# Altium footprint library MC-IMX6UL-DK v1.1.PcbLib: 48 footprints (part 1 of 3)
Each footprint in its own frame and in the unit in brackets; x right, y up, seen from the top. Pads: shape width x height; smd on the part's side, far side on the other; paste and mask are expansions set on the pad; w line width, h text height; cw(c..) or ccw(c..) is an arc to the next point about the centre after c.
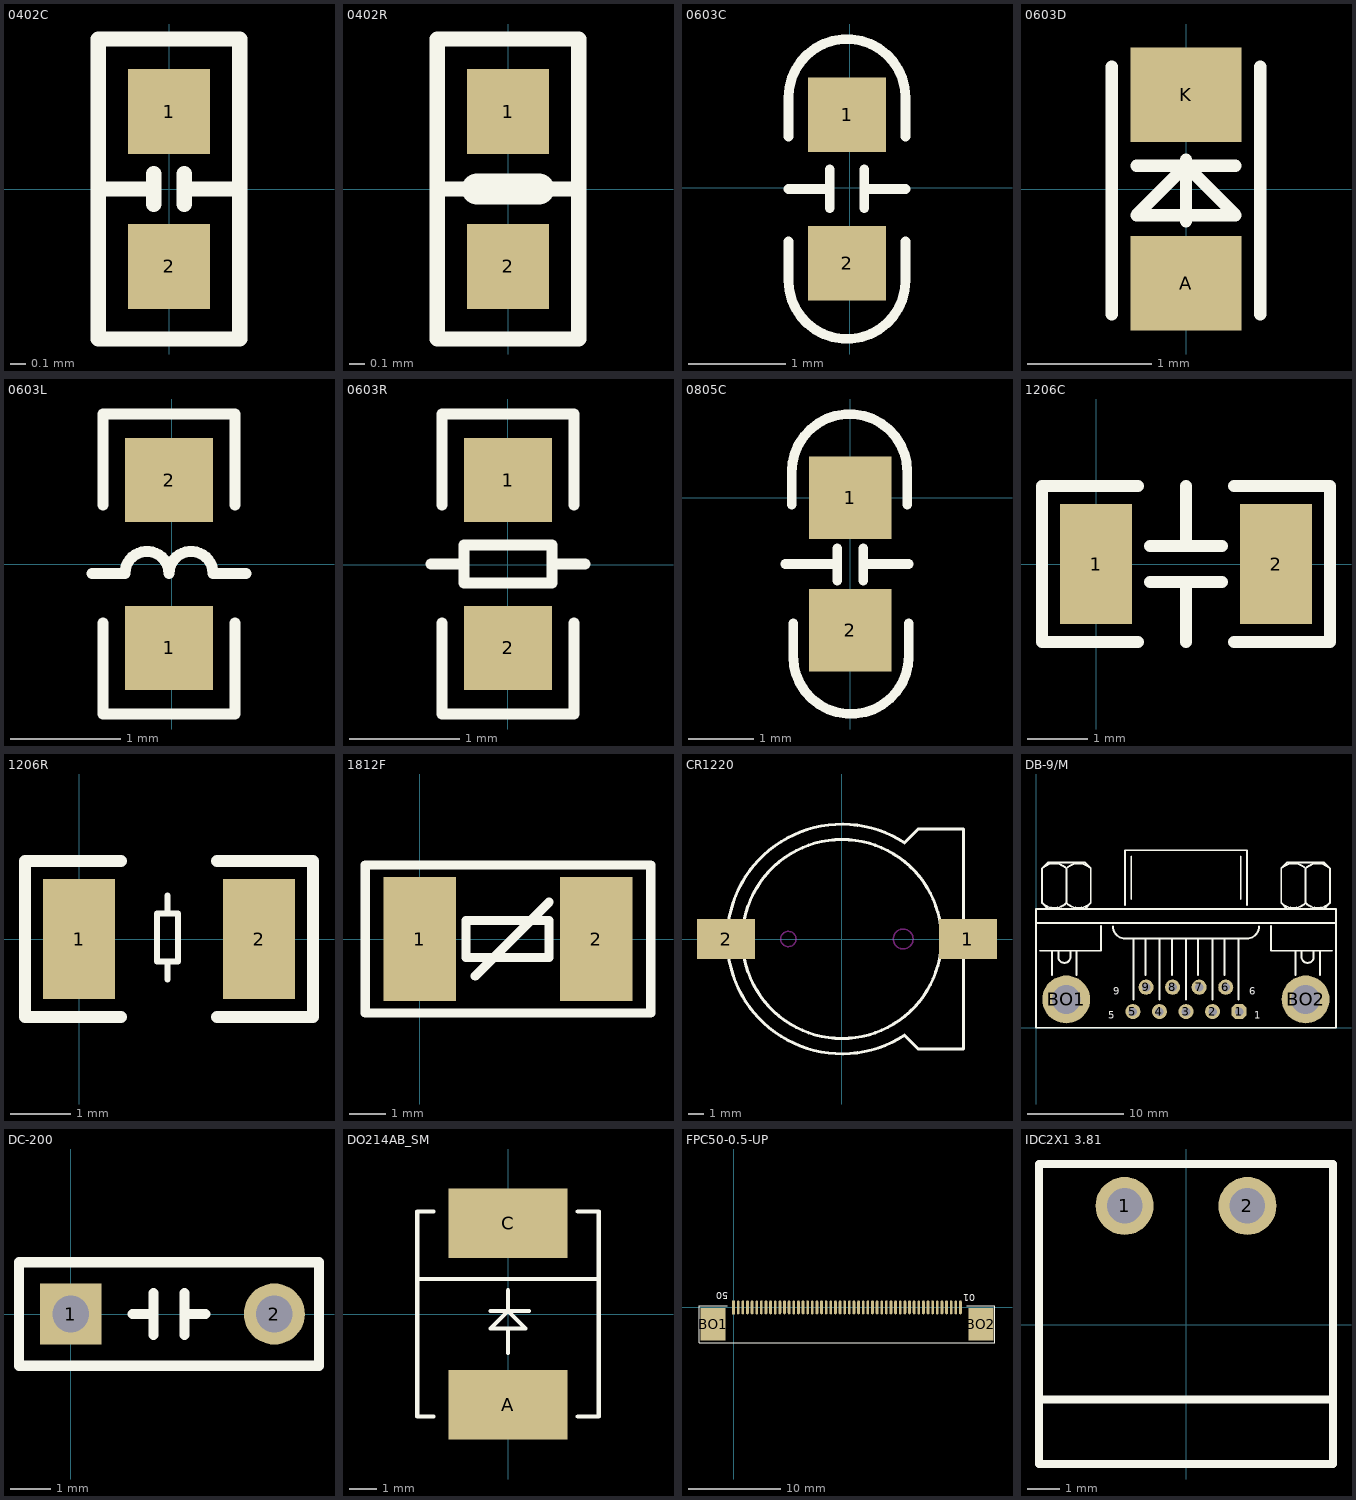
[diagram p0: the footprints below, top view; thin cyan lines are the x and y axes]

## 0402C [mm]
height 4.064
pads (2):
  rect 0.53x0.55 smd: 1(0,0.5) 2(0,-0.5)
Top Overlay:
  lines w0.1: -0.457,0 -0.1,0 ; -0.1,-0.1 -0.1,0.1 ; 0.1,-0.1 0.1,0.1 ; 0.1,0 0.457,0 ; -0.457,-0.97 0.457,-0.97 0.457,0.97 -0.457,0.97 -0.457,-0.97

## 0402R [mm]
height 4.064
pads (2):
  rect 0.53x0.55 smd: 1(0,0.5) 2(0,-0.5)
Top Overlay:
  lines w0.1: -0.457,0 -0.2,0 ; 0.2,0 0.457,0 ; -0.457,-0.97 0.457,-0.97 0.457,0.97 -0.457,0.97 -0.457,-0.97
  lines w0.2: -0.2,0 0.2,0

## 0603C [mm]
pads (2):
  rect 0.8x0.762 smd: 1(-0.026,0.75) 2(-0.026,-0.774)
Top Overlay:
  lines w0.1: -0.626,-0.55 -0.626,-0.95 ccw(c-0.026,-0.95) 0.574,-0.95 0.574,-0.55 ; -0.626,-0.012 -0.226,-0.012 ; -0.626,0.526 -0.626,0.926 cw(c-0.026,0.926) 0.574,0.926 0.574,0.526 ; -0.204,-0.209 -0.204,0.191 ; 0.152,-0.209 0.152,0.191 ; 0.174,-0.012 0.574,-0.012

## 0603D [mil]
pads (2):
  rect 35.43x30 smd: A(0,-30) K(0,30)
Top Overlay:
  lines w3.94: -23.62,-39.81 -23.62,38.93 ; -15.75,7.43 15.75,7.43 ; 0,-10.28 0,9.4 ; 23.62,-39.81 23.62,38.93 ; -15.75,-8.31 15.75,-8.31 0,7.43 -15.75,-8.31

## 0603L [mm]
pads (2):
  rect 0.8x0.762 smd: 1(-0.023,-0.76) 2(-0.023,0.764)
Top Overlay:
  lines w0.1: -0.723,-0.084 -0.423,-0.084 cw(c-0.223,-0.084) -0.023,-0.084 cw(c0.177,-0.084) 0.377,-0.084 0.677,-0.084 ; -0.623,-0.536 -0.623,-1.36 0.577,-1.36 0.577,-0.536 ; -0.623,0.54 -0.623,1.364 0.577,1.364 0.577,0.54

## 0603R [mm]
pads (2):
  rect 0.8x0.762 smd: 1(0.001,0.77) 2(0.001,-0.754)
Top Overlay:
  lines w0.1: -0.699,0.008 -0.399,0.008 ; -0.599,-0.53 -0.599,-1.354 0.601,-1.354 0.601,-0.53 ; -0.599,0.546 -0.599,1.37 0.601,1.37 0.601,0.546 ; 0.401,0.008 0.701,0.008 ; -0.399,-0.166 0.401,-0.166 0.401,0.182 -0.399,0.182 -0.399,-0.166

## 0805C [mil]
pads (2):
  rect 50x50 smd: 1(0,0) 2(0,-80)
Top Overlay:
  lines w5.91: -39.37,-40 -7.87,-40 ; -35.43,-4.13 -35.43,15.87 cw(c-0.43,15.87) 34.57,15.87 34.57,-4.13 ; -34.57,-75.87 -34.57,-95.87 ccw(c0.43,-95.87) 35.43,-95.87 35.43,-75.87 ; -7.87,-50.12 -7.87,-30.43 ; 7.87,-50.12 7.87,-30.43 ; 7.87,-40 35.43,-40

## 1206C [mm]
pads (2):
  rect 1.2x2 smd: 1(0,0) 2(3,0)
Top Overlay:
  lines w0.2: 0.7,-1.3 -0.9,-1.3 -0.9,1.3 0.7,1.3 ; 0.9,-0.3 2.1,-0.3 ; 0.9,0.3 2.1,0.3 ; 1.5,-1.3 1.5,-0.3 ; 1.5,0.3 1.5,1.3 ; 2.3,-1.3 3.9,-1.3 3.9,1.3 2.3,1.3

## 1206R [mm]
pads (2):
  rect 1.2x2 smd: 1(0,0) 2(3,0)
Top Overlay:
  lines w0.1: 1.477,-0.676 1.477,-0.376 ; 1.477,0.424 1.477,0.724 ; 1.303,-0.376 1.303,0.424 1.651,0.424 1.651,-0.376 1.303,-0.376
  lines w0.2: 0.7,-1.3 -0.9,-1.3 -0.9,1.3 0.7,1.3 ; 2.3,-1.3 3.9,-1.3 3.9,1.3 2.3,1.3

## 1812F [mm]
pads (2):
  rect 2x3.4 smd: 1(0,0) 2(4.85,0)
Top Overlay:
  lines w0.254: 1.524,-1.016 3.556,1.016 ; -1.5,-2.032 6.35,-2.032 6.35,2.032 -1.5,2.032 -1.5,-2.032 ; 1.27,-0.508 3.556,-0.508 3.556,0.508 1.27,0.508 1.27,-0.508

## CR1220 [mm]
pads (2):
  rect 3.8x2.6 smd: 1(8.23,0) 2(-7.57,0)
Top Overlay:
  circle w0.2: c0,0 r6.5
  lines w0.152: 5,7.2 5,7.2
  lines w0.2: 4.085,-6.29 cw(c0,0) 4.085,6.29 ; 4.1,-6.3 5,-7.2 7.9,-7.2 ; 4.1,6.3 5,7.2 7.9,7.2 ; 7.94,-7.2 7.94,7.2
Keep-Out Layer:
  circle w0.1: c-3.5,0 r0.5
  circle w0.1: c4,0 r0.65

## DB-9/M [mil]
pads (11):
  oct 62x62 hole 35: 1(835,66.67)
  round 62 hole 35: 2(725.83,66.67) 3(616.67,66.67) 4(507.5,66.67) 5(398.33,66.67) 6(780,166.67) 7(670.83,166.67) 8(561.67,166.67) 9(452.5,166.67)
  round 196.67 hole 118.33: BO1(124.17,116.67) BO2(1108.33,116.67)
Top Overlay:
  lines w8: 0,429.86 1233.33,429.86 ; 16.67,316.67 266.67,316.67 266.67,418.05 ; 24.91,513.1 ccw(c75,563.19) 125.09,513.1 ; 24.91,654.94 cw(c75,604.86) 125.09,654.94 ; 50,488.19 25,513.19 25,654.86 50,679.86 200,679.86 225,654.86 225,513.19 200,488.19 ; 66.67,216.67 66.67,316.67 ; 91.67,316.67 91.67,291.67 ccw(c116.67,291.67) 141.67,291.67 141.67,316.67 ; 124.91,513.1 ccw(c175,563.19) 225.09,513.1 ; 124.91,654.94 cw(c175,604.86) 225.09,654.94 ; 125,513.19 125,654.86 ; 166.67,216.67 166.67,316.67 ; 316.67,416.67 ccw(c366.67,416.67) 366.67,366.67 866.67,366.67 ccw(c866.67,416.67) 916.67,416.67 ; 366.67,504.86 366.67,729.86 866.67,729.86 866.67,504.86 ; 391.67,529.86 391.67,704.86 ; 400,116.67 400,366.67 ; 450,216.67 450,366.67 ; 508.33,116.67 508.33,366.67 ; 558.33,216.67 558.33,366.67 ; 616.67,116.67 616.67,366.67 ; 666.67,216.67 666.67,366.67 ; 725,116.67 725,366.67 ; 775,216.67 775,225 775,366.67 ; 833.33,116.67 833.33,366.67 ; 841.67,529.86 841.67,704.86 ; 966.67,418.05 966.67,316.67 1216.67,316.67 ; 1008.25,513.1 ccw(c1058.33,563.19) 1108.42,513.1 ; 1008.25,654.94 cw(c1058.33,604.86) 1108.42,654.94 ; 1033.33,488.19 1008.33,513.19 1008.33,654.86 1033.33,679.86 1183.33,679.86 1208.33,654.86 1208.33,513.19 1183.33,488.19 ; 1066.67,216.67 1066.67,316.67 ; 1091.67,316.67 1091.67,291.67 ccw(c1116.67,291.67) 1141.67,291.67 1141.67,316.67 ; 1108.25,513.1 ccw(c1158.33,563.19) 1208.42,513.1 ; 1108.25,654.94 cw(c1158.33,604.86) 1208.42,654.94 ; 1108.33,513.19 1108.33,654.86 ; 1166.67,216.67 1166.67,316.67 ; 0,0 0,488.19 1233.33,488.19 1233.33,0 0,0
  text "6" at 876.67,136.67 h30
  text "1" at 896.67,36.67 h30
  text "5" at 296.67,36.67 h30
  text "9" at 316.67,136.67 h30

## DC-200 [mm]
pads (2):
  rect 1.5x1.5 hole 0.9: 1(0,0)
  round 1.5 hole 0.9: 2(5,0)
Top Overlay:
  lines w0.254: 1.524,0 2.032,0 ; 2.032,-0.508 2.032,0.508 ; 2.794,-0.508 2.794,0.508 ; 2.794,0 3.302,0 ; -1.27,-1.27 -1.27,1.27 6.096,1.27 6.096,-1.27 -1.27,-1.27

## DO214AB_SM [mil]
pads (2):
  rect 170x100 smd: A(0,-130) C(0,130)
Top Overlay:
  lines w6: -127,50 130,50 ; -107,-147 -130,-147 -130,147 -107,147 ; -25,4.1 30,4.1 ; 0,-55.9 0,-20.9 ; 0,34.1 0,4.1 ; 100,-147 130,-147 130,147 100,147 ; 0,4.1 -25,-20.9 25,-20.9 0,4.1

## FPC50-0.5-UP [mm]
pads (52):
  oval 0.3x1.5 smd: 1(24.5,0) 2(24,0) 3(23.5,0) 4(23,0) 5(22.5,0) 6(22,0) 7(21.5,0) 8(21,0) 9(20.5,0) 10(20,0) 11(19.5,0) 12(19,0) 13(18.5,0) 14(18,0) 15(17.5,0) 16(17,0) 17(16.5,0) 18(16,0) 19(15.5,0) 20(15,0) 21(14.5,0) 22(14,0) 23(13.5,0) 24(13,0) 25(12.5,0) 26(12,0) 27(11.5,0) 28(11,0) 29(10.5,0) 30(10,0) 31(9.5,0) 32(9,0) 33(8.5,0) 34(8,0) 35(7.5,0) 36(7,0) 37(6.5,0) 38(6,0) 39(5.5,0) 40(5,0) 41(4.5,0) 42(4,0) 43(3.5,0) 44(3,0) 45(2.5,0) 46(2,0) 47(1.5,0) 48(1,0) 49(0.5,0)
  rect 0.3x1.5 smd: 50(0,0)
  rect 2.7x3.5 smd: BO1(-2.2,-1.825) BO2(26.7,-1.812)
Top Overlay:
  lines w0.127: -0.7,0.175 -3.7,0.175 -3.7,-3.825 28.2,-3.825 28.2,0.175 25.2,0.175
  text "01" at 26.084,1.432 h0.76
  text "50" at -0.561,1.635 h0.76

## IDC2X1 3.81 [mm]
pads (2):
  round 1.8 hole 1.1: 1(-1.905,3.683) 2(1.905,3.683)
Top Overlay:
  lines w0.254: -4.56,-2.314 4.56,-2.314 ; -4.56,-4.317 -4.56,4.983 4.56,4.983 4.56,-4.317 -4.56,-4.317